# Altium footprint library AdamsParts.PcbLib: 238 footprints (part 13 of 15)
Each footprint in its own frame and in the unit in brackets; x right, y up, seen from the top. Pads: shape width x height; smd on the part's side, far side on the other; paste and mask are expansions set on the pad; w line width, h text height; cw(c..) or ccw(c..) is an arc to the next point about the centre after c.
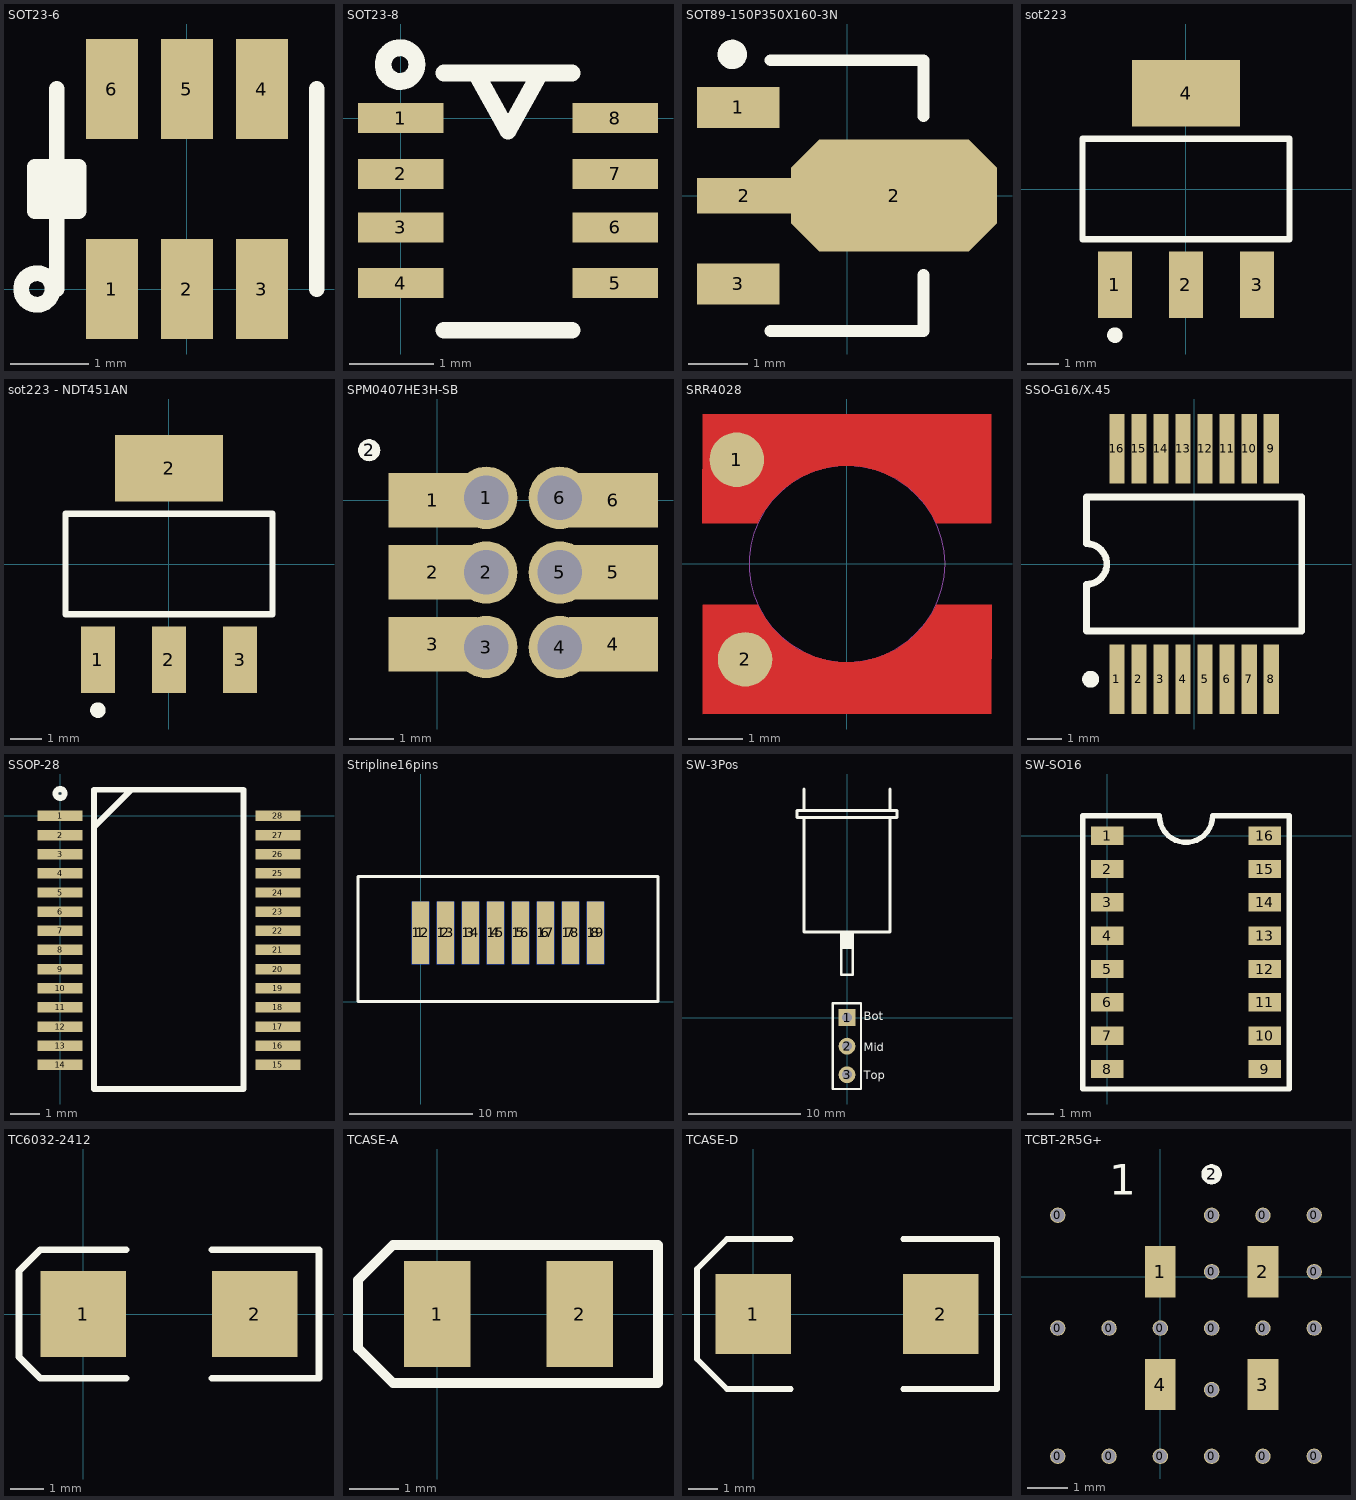
[diagram p12: the footprints below, top view; thin cyan lines are the x and y axes]

## SOT23-6 [mil]
pads (6):
  rect 26x50 smd: 1(-37.5,0) 2(0,0) 3(37.5,0) 4(37.5,100) 5(0,100) 6(-37.5,100)
Top Overlay:
  circle w7.87: c-75,0 r7.87
  lines w7.87: -70,39 -70,61 ; -65,0 -65,100 ; -60,39 -60,61 ; 65,0 65,100 ; -76,39 -76,61 -54,61 -54,39 -76,39

## SOT23-8 [mil]
pads (8):
  rect 40x14 smd: 1(0,0) 2(0,-26) 3(0,-51) 4(0,-77) 5(100,-77) 6(100,-51) 7(100,-26) 8(100,0)
Top Overlay:
  circle w7.87: c-0.37,25 r7.87
  lines w7.87: 20,-99 80,-99 ; 20,21 80,21 ; 35,21 50,-6 65,21

## SOT89-150P350X160-3N [mm] "SOT89, 3-Leads, Body 4.5x2.5mm (max), Pitch 1.50mm, Lead Span 3.5mm, IPC Medium Density"
height 1.6
pads (4):
  rect 1.4x0.7 smd: 1(-1.85,1.5) 3(-1.85,-1.5)
  rect 1.6x0.6 smd: 2(-1.75,0)
  oct 3.5x1.9 smd: 2(0.8,0)
Top Overlay:
  circle w0.25: c-1.95,2.4 r0.125
  lines w0.2: -1.3,-2.3 1.3,-2.3 1.3,-1.35 ; -1.3,2.3 1.3,2.3 1.3,1.35
3D body: height 1.6, standoff 0, extent -1.3,-2.3 1.3,2.3

## sot223 [mm]
pads (4):
  rect 1.1x2.15 smd: 1(-2.3,-3.1) 2(0,-3.1) 3(2.3,-3.1)
  rect 3.5x2.15 smd: 4(0,3.1)
Top Overlay:
  circle w0.25: c-2.3,-4.725 r0.125
  lines w0.2: -3.35,-1.625 -3.35,1.625 3.35,1.625 3.35,-1.625 -3.35,-1.625

## sot223 - NDT451AN [mm]
pads (4):
  rect 1.1x2.15 smd: 1(-2.3,-3.1) 2(0,-3.1) 3(2.3,-3.1)
  rect 3.5x2.15 smd: 2(0,3.1)
Top Overlay:
  circle w0.25: c-2.3,-4.725 r0.125
  lines w0.2: -3.35,-1.625 -3.35,1.625 3.35,1.625 3.35,-1.625 -3.35,-1.625

## SPM0407HE3H-SB [mm]
pads (13):
  rect 2x1.22 smd: 1(-0.1,0) 2(-0.1,-1.62) 3(-0.1,-3.24) 4(3.956,-3.24) 5(3.956,-1.62) 6(3.956,0)
  round 1.4 hole 1: 1(1.1,0.05) 2(1.1,-1.625) 3(1.1,-3.3) 4(2.75,-3.3) 5(2.75,-1.625) 6(2.75,0.05)
  round 0.5 on Top Overlay: 2(-1.53,1.12)

## SRR4028 [mm]
height 2.8
pads (2):
  round 1 smd: 1(-2.02,1.912) 2(-1.87,-1.749)
Top Layer:
  region: 1.8,-0.751 2.651,-0.751 2.65,-2.751 -2.649,-2.752 -2.648,-0.752 -1.8,-0.752 -1.636,-0.751 -1.558,-0.901 -1.474,-1.033 -1.378,-1.158 -1.273,-1.273 -1.157,-1.38 -1.032,-1.476 -0.901,-1.56 -0.76,-1.633 -0.616,-1.692 -0.465,-1.74 -0.312,-1.774 -0.157,-1.794 0.001,-1.801 0.157,-1.795 0.313,-1.773 0.466,-1.739 0.617,-1.692 0.761,-1.632 0.901,-1.56 1.033,-1.476 1.158,-1.38 1.273,-1.274 1.38,-1.158 1.475,-1.034 1.559,-0.901 1.632,-0.763 1.636,-0.751 1.801,-0.751
  region: -1.8,0.75 -2.65,0.75 -2.65,2.75 2.65,2.75 2.649,0.751 1.8,0.751 1.637,0.75 1.559,0.9 1.475,1.032 1.378,1.157 1.273,1.272 1.158,1.379 1.033,1.475 0.901,1.559 0.761,1.631 0.616,1.691 0.466,1.739 0.313,1.773 0.157,1.793 0,1.8 -0.156,1.793 -0.312,1.772 -0.466,1.738 -0.616,1.691 -0.761,1.631 -0.9,1.559 -1.033,1.474 -1.157,1.379 -1.273,1.273 -1.379,1.157 -1.475,1.033 -1.559,0.9 -1.631,0.762 -1.636,0.75 -1.8,0.75
Mechanical 3:
  circle w0.01: c0,0 r1.8

## SSO-G16/X.45 [mm]
pads (16):
  rect 0.45x2.05 smd: 1(-2.275,-3.4) 2(-1.625,-3.4) 3(-0.975,-3.4) 4(-0.325,-3.4) 5(0.325,-3.4) 6(0.975,-3.4) 7(1.625,-3.4) 8(2.275,-3.4) 9(2.275,3.4) 10(1.625,3.4) 11(0.975,3.4) 12(0.325,3.4) 13(-0.325,3.4) 14(-0.975,3.4) 15(-1.625,3.4) 16(-2.275,3.4)
Top Overlay:
  circle w0.25: c-3.05,-3.4 r0.125
  lines w0.2: -3.175,-0.625 -3.175,-1.975 3.175,-1.975 3.175,1.975 -3.175,1.975 -3.175,0.625 ; -3.175,-0.6 ccw(c-3.175,0) -3.175,0.6

## SSOP-28 [mil]
pads (28):
  rect 60x14 smd: 1(0,0) 2(0,-25.59) 3(0,-51.18) 4(0,-76.77) 5(0,-102.36) 6(0,-127.95) 7(0,-153.54) 8(0,-179.13) 9(0,-204.72) 10(0,-230.31) 11(0,-255.91) 12(0,-281.5) 13(0,-307.09) 14(0,-332.68) 15(291.34,-332.68) 16(291.34,-307.09) 17(291.34,-281.5) 18(291.34,-255.91) 19(291.34,-230.31) 20(291.34,-204.72) 21(291.34,-179.13) 22(291.34,-153.54) 23(291.34,-127.95) 24(291.34,-102.36) 25(291.34,-76.77) 26(291.34,-51.18) 27(291.34,-25.59) 28(291.34,0)
Top Overlay:
  circle w7.87: c0,30 r6
  lines w7.87: 45.28,-15 95.28,35 ; 45.28,-365 45.28,35 245.28,35 245.28,-365 45.28,-365

## Stripline16pins [mil] "Stripline 16pins"
pads (16):
  rect 55x200 smd: 1(0,220) 2(80,220) 3(160,220) 4(240,220) 5(320,220) 6(400,220) 7(480,220) 8(560,220)
  rect 55x200 smd far side: 12(0,220) 13(80,220) 14(160,220) 15(240,220) 16(320,220) 17(400,220) 18(480,220) 19(560,220)
Top Overlay:
  lines w10: -200,0 -200,200 -200,400 760,400 760,0 -200,0

## SW-3Pos [mm]
pads (3):
  rect 1.5x1.5 hole 0.889: 1(0,0)
  round 1.5 hole 0.889: 2(0,-2.54) 3(0,-5.08)
Top Overlay:
  rectangle: -0.508,6.096 0.508,7.62
  lines w0.2: -1.27,-6.35 -1.27,1.27 1.25,1.27 1.25,-6.35 -1.27,-6.35
  lines w0.254: -3.81,18.415 -3.81,20.32 ; -0.508,7.62 -0.508,3.81 0.508,3.81 0.508,7.62 ; 3.81,18.415 3.81,20.32 ; -3.81,17.78 3.81,17.78 ; -3.81,17.78 -3.81,7.62 3.81,7.62 3.81,17.78 ; -3.81,17.78 -4.445,17.78 -4.445,18.415 4.445,18.415 4.445,17.78 3.81,17.78
  text "Bot" at 1.5,-0.25 h0.76
  text "Mid" at 1.5,-3 h0.76
  text "Top" at 1.5,-5.5 h0.76

## SW-SO16 [mm]
pads (16):
  rect 1.25x0.7 smd: 1(0,0) 2(0,-1.27) 3(0,-2.54) 4(0,-3.81) 5(0,-5.08) 6(0,-6.35) 7(0,-7.62) 8(0,-8.89) 9(6.007,-8.89) 10(6.007,-7.62) 11(6.007,-6.35) 12(6.007,-5.08) 13(6.007,-3.81) 14(6.007,-2.54) 15(6.007,-1.27) 16(6.007,0)
Top Overlay:
  lines w0.203: -0.934,-9.652 -0.934,0.762 1.987,0.762 ccw(c3.003,0.762) 4.019,0.762 6.94,0.762 6.94,-9.652 -0.934,-9.652

## TC6032-2412 [mm]
pads (2):
  rect 2.54x2.54 smd: 1(0,0) 2(5.08,0)
Top Overlay:
  lines w0.203: 1.27,-1.905 -1.27,-1.905 -1.905,-1.27 -1.905,1.27 -1.27,1.905 1.27,1.905 ; 3.81,-1.905 6.985,-1.905 6.985,1.905 3.81,1.905

## TCASE-A [mm]
pads (2):
  rect 1.35x2.15 smd: 1(0,0) 2(2.9,0)
Top Overlay:
  lines w0.2: -1.609,-0.7 -1.609,0.691 ; -1.6,-0.7 -0.9,-1.4 4.491,-1.4 4.491,1.4 -0.9,1.4 -1.6,0.7

## TCASE-D [mm]
pads (2):
  rect 2.55x2.7 smd: 1(0,0) 2(6.35,0)
Top Overlay:
  lines w0.2: 1.27,-2.54 -0.889,-2.54 -1.905,-1.524 -1.905,1.524 -0.889,2.54 1.27,2.54 ; 5.08,-2.54 8.255,-2.54 8.255,2.54 5.08,2.54

## TCBT-2R5G+ [mil] "Minicircuits Bias-Tee 50 Ohm 20-2500MHz"
pads (24):
  round 15 hole 13: 0(-100,-175) 0(-100,-50) 0(-100,60) 0(-50,-175) 0(-50,-50) 0(0,-175) 0(0,-50) 0(50,-175) 0(50,-110) 0(50,-50) 0(50,5) 0(50,60) 0(100,-175) 0(100,-50) 0(100,60) 0(150,-175) 0(150,-50) 0(150,5) 0(150,60)
  rect 30x50 smd: 1(0,5) 2(100,5) 3(100,-105) 4(0,-105)
  round 20 on Top Overlay: 2(50,100)
Top Overlay:
  text "1" at -50,80 h30